# Altium footprint library user_components_lib.PcbLib: 52 footprints (part 4 of 4)
Each footprint in its own frame and in the unit in brackets; x right, y up, seen from the top. Pads: shape width x height; smd on the part's side, far side on the other; paste and mask are expansions set on the pad; w line width, h text height; cw(c..) or ccw(c..) is an arc to the next point about the centre after c.
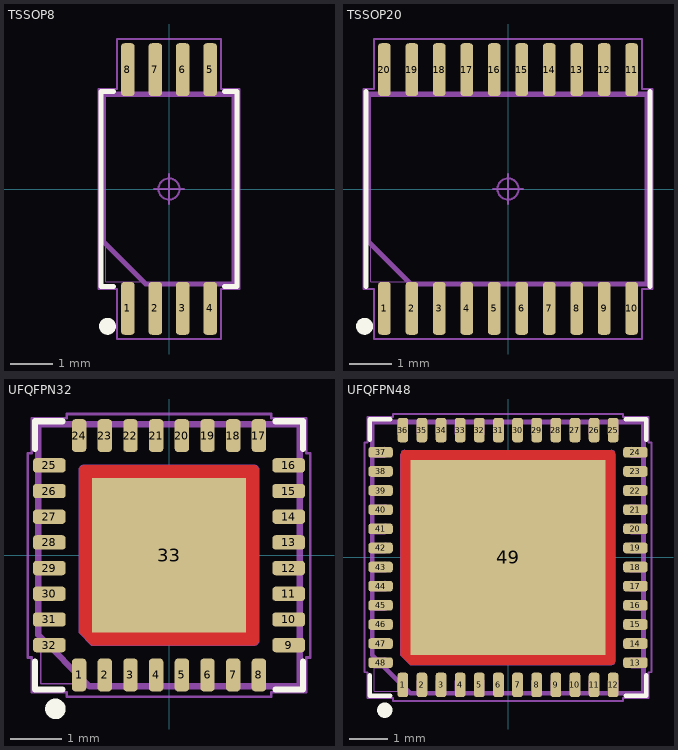
[diagram p3: the footprints below, top view; thin cyan lines are the x and y axes]

## TSSOP8 [mm] "Small Outline Pkg (SOP), 0.65 mm pitch; 8 pin, 3.00 mm L X 4.40 mm W X 1.20 mm H body"
height 1.2
pads (8):
  rrect50% 0.32x1.25 smd: 1(-0.975,-2.825) 2(-0.325,-2.825) 3(0.325,-2.825) 4(0.975,-2.825) 5(0.975,2.825) 6(0.325,2.825) 7(-0.325,2.825) 8(-0.975,2.825)
Top Overlay:
  circle w0.2: c-1.455,-3.25 r0.1
  lines w0.12: -1.315,-2.31 -1.61,-2.31 -1.61,2.31 -1.315,2.31 ; 1.315,-2.31 1.61,-2.31 1.61,2.31 1.315,2.31
Mechanical 9:
  lines w0.12: -1.55,-1.25 -1.55,2.25 1.55,2.25 1.55,-2.25 -0.55,-2.25 -1.55,-1.25
  text ".Designator" at -4.511,-0.453 h2
Mechanical 11:
  text ".Designator" at -2.252,-0.226 h1
Mechanical 15:
  lines w0.05: -1.67,-2.37 -1.235,-2.37 -1.235,-3.55 1.235,-3.55 1.235,-2.37 1.67,-2.37 1.67,2.37 1.235,2.37 1.235,3.55 -1.235,3.55 -1.235,2.37 -1.67,2.37 -1.67,-2.37
Mechanical 17:
  circle w0.05: c0,0 r0.25
  lines w0.05: -0.35,0 0.35,0 ; 0,-0.35 0,0.35
Mechanical 21:
  lines w0.025: -1.5,-2.2 1.5,-2.2 1.5,2.2 -1.5,2.2 -1.5,-2.2 ; -1.098,-3.2 -1.098,-2.6 -0.853,-2.6 -0.853,-3.2 -1.098,-3.2 ; -1.098,2.6 -1.098,3.2 -0.853,3.2 -0.853,2.6 -1.098,2.6 ; -0.447,-3.2 -0.447,-2.6 -0.202,-2.6 -0.202,-3.2 -0.447,-3.2 ; -0.447,2.6 -0.447,3.2 -0.202,3.2 -0.202,2.6 -0.447,2.6 ; 0.202,-3.2 0.202,-2.6 0.447,-2.6 0.447,-3.2 0.202,-3.2 ; 0.202,2.6 0.202,3.2 0.447,3.2 0.447,2.6 0.202,2.6 ; 0.853,-3.2 0.853,-2.6 1.098,-2.6 1.098,-3.2 0.853,-3.2 ; 0.853,2.6 0.853,3.2 1.098,3.2 1.098,2.6 0.853,2.6
3D body "TSSOP8.STEP": height 1.2, standoff 0, extent -1.5,-3.2 1.5,3.2

## TSSOP20 [mm] "Small Outline Pkg (SOP), 0.65 mm pitch; 20 pin, 6.50 mm L X 4.40 mm W X 1.20 mm H body"
height 1.2
pads (20):
  rrect53% 0.3x1.25 smd: 1(-2.925,-2.825) 2(-2.275,-2.825) 3(-1.625,-2.825) 4(-0.975,-2.825) 5(-0.325,-2.825) 6(0.325,-2.825) 7(0.975,-2.825) 8(1.625,-2.825) 9(2.275,-2.825) 10(2.925,-2.825) 11(2.925,2.825) 12(2.275,2.825) 13(1.625,2.825) 14(0.975,2.825) 15(0.325,2.825) 16(-0.325,2.825) 17(-0.975,2.825) 18(-1.625,2.825) 19(-2.275,2.825) 20(-2.925,2.825)
Top Overlay:
  circle w0.2: c-3.395,-3.25 r0.1
  lines w0.12: -3.36,-2.31 -3.36,2.31 ; 3.36,-2.31 3.36,2.31
Mechanical 9:
  lines w0.12: -3.3,-1.25 -2.3,-2.25 3.3,-2.25 3.3,2.25 -3.3,2.25 -3.3,-1.25
  text ".Designator" at -4.511,-0.453 h2
Mechanical 11:
  text ".Designator" at -2.252,-0.226 h1
Mechanical 15:
  lines w0.05: -3.42,-2.37 -3.42,2.37 -3.175,2.37 -3.175,3.55 3.175,3.55 3.175,2.37 3.42,2.37 3.42,-2.37 3.175,-2.37 3.175,-3.55 -3.175,-3.55 -3.175,-2.37 -3.42,-2.37
Mechanical 17:
  circle w0.05: c0,0 r0.25
  lines w0.05: -0.35,0 0.35,0 ; 0,-0.35 0,0.35
Mechanical 21:
  lines w0.025: -3.25,-2.2 -3.25,2.2 3.25,2.2 3.25,-2.2 -3.25,-2.2 ; -3.045,-3.2 -2.805,-3.2 -2.805,-2.6 -3.045,-2.6 -3.045,-3.2 ; -3.045,2.6 -2.805,2.6 -2.805,3.2 -3.045,3.2 -3.045,2.6 ; -2.395,-3.2 -2.155,-3.2 -2.155,-2.6 -2.395,-2.6 -2.395,-3.2 ; -2.395,2.6 -2.155,2.6 -2.155,3.2 -2.395,3.2 -2.395,2.6 ; -1.745,-3.2 -1.505,-3.2 -1.505,-2.6 -1.745,-2.6 -1.745,-3.2 ; -1.745,2.6 -1.505,2.6 -1.505,3.2 -1.745,3.2 -1.745,2.6 ; -1.095,-3.2 -0.855,-3.2 -0.855,-2.6 -1.095,-2.6 -1.095,-3.2 ; -1.095,2.6 -0.855,2.6 -0.855,3.2 -1.095,3.2 -1.095,2.6 ; -0.445,-3.2 -0.205,-3.2 -0.205,-2.6 -0.445,-2.6 -0.445,-3.2 ; -0.445,2.6 -0.205,2.6 -0.205,3.2 -0.445,3.2 -0.445,2.6 ; 0.205,-3.2 0.445,-3.2 0.445,-2.6 0.205,-2.6 0.205,-3.2 ; 0.205,2.6 0.445,2.6 0.445,3.2 0.205,3.2 0.205,2.6 ; 0.855,-3.2 1.095,-3.2 1.095,-2.6 0.855,-2.6 0.855,-3.2 ; 0.855,2.6 1.095,2.6 1.095,3.2 0.855,3.2 0.855,2.6 ; 1.505,-3.2 1.745,-3.2 1.745,-2.6 1.505,-2.6 1.505,-3.2 ; 1.505,2.6 1.745,2.6 1.745,3.2 1.505,3.2 1.505,2.6 ; 2.155,-3.2 2.395,-3.2 2.395,-2.6 2.155,-2.6 2.155,-3.2 ; 2.155,2.6 2.395,2.6 2.395,3.2 2.155,3.2 2.155,2.6 ; 2.805,-3.2 3.045,-3.2 3.045,-2.6 2.805,-2.6 2.805,-3.2 ; 2.805,2.6 3.045,2.6 3.045,3.2 2.805,3.2 2.805,2.6
3D body "TSSOP20.STEP": height 1.2, standoff 0, extent -3.25,-3.2 3.25,3.2

## UFQFPN32 [mm] "Quad Flat No-Lead (QFN) with tab, 0.50 mm pitch; 33 pin, square, 8 pin X 8 pin, 5.00 mm L X 5.00 mm W X 0.60 mm H body"
height 0.6
pads (33):
  rrect50% 0.28x0.64 smd: 1(-1.75,-2.33) 2(-1.25,-2.33) 3(-0.75,-2.33) 4(-0.25,-2.33) 5(0.25,-2.33) 6(0.75,-2.33) 7(1.25,-2.33) 8(1.75,-2.33) 17(1.75,2.33) 18(1.25,2.33) 19(0.75,2.33) 20(0.25,2.33) 21(-0.25,2.33) 22(-0.75,2.33) 23(-1.25,2.33) 24(-1.75,2.33)
  rrect50% 0.64x0.28 smd: 9(2.33,-1.75) 10(2.33,-1.25) 11(2.33,-0.75) 12(2.33,-0.25) 13(2.33,0.25) 14(2.33,0.75) 15(2.33,1.25) 16(2.33,1.75) 25(-2.33,1.75) 26(-2.33,1.25) 27(-2.33,0.75) 28(-2.33,0.25) 29(-2.33,-0.25) 30(-2.33,-0.75) 31(-2.33,-1.25) 32(-2.33,-1.75)
  rect 3x3 smd paste-3 mask-3: 33(0,0)
Top Layer:
  region: 1.75,0 1.75,-1.65 1.749,-1.666 1.745,-1.681 1.739,-1.695 1.731,-1.709 1.721,-1.721 1.709,-1.731 1.695,-1.739 1.681,-1.745 1.666,-1.749 -1.5,-1.75 -1.75,-1.5 -1.75,1.65 -1.749,1.666 -1.745,1.681 -1.739,1.695 -1.731,1.709 -1.721,1.721 -1.709,1.731 -1.695,1.739 -1.681,1.745 -1.666,1.749 1.65,1.75 1.666,1.749 1.681,1.745 1.695,1.739 1.709,1.731 1.721,1.721 1.731,1.709 1.739,1.695 1.745,1.681 1.749,1.666 1.75,1.65
Top Overlay:
  circle w0.2: c-2.21,-2.99 r0.1
  lines w0.12: -2.61,-2.07 -2.61,-2.61 -2.07,-2.61 ; -2.61,2.07 -2.61,2.61 -2.07,2.61 ; 2.07,-2.61 2.61,-2.61 2.61,-2.07 ; 2.07,2.61 2.61,2.61 2.61,2.07
Top Paste:
  region: -0.197,0.197 -1.553,0.197 -1.553,1.553 -0.197,1.553
  region: -0.198,-1.55 -1.55,-1.55 -1.55,-0.198 -0.198,-0.198
  region: 1.553,0.197 0.197,0.197 0.197,1.553 1.553,1.553
  region: 1.553,-1.553 0.197,-1.553 0.197,-0.197 1.553,-0.197
Top Solder:
  region: 1.75,0 1.75,-1.65 1.749,-1.666 1.745,-1.681 1.739,-1.695 1.731,-1.709 1.721,-1.721 1.709,-1.731 1.695,-1.739 1.681,-1.745 1.666,-1.749 -1.5,-1.75 -1.75,-1.5 -1.75,1.65 -1.749,1.666 -1.745,1.681 -1.739,1.695 -1.731,1.709 -1.721,1.721 -1.709,1.731 -1.695,1.739 -1.681,1.745 -1.666,1.749 1.65,1.75 1.666,1.749 1.681,1.745 1.695,1.739 1.709,1.731 1.721,1.721 1.731,1.709 1.739,1.695 1.745,1.681 1.749,1.666 1.75,1.65
Mechanical 9:
  lines w0.12: -2.55,-1.55 -2.55,2.55 2.55,2.55 2.55,-2.55 -1.55,-2.55 -2.55,-1.55
  text ".Designator" at -4.511,-0.453 h2
Mechanical 11:
  text ".Designator" at -2.252,-0.226 h1
Mechanical 15:
  lines w0.05: -2.75,-1.99 -2.67,-1.99 -2.67,-2.67 -1.99,-2.67 -1.99,-2.75 1.99,-2.75 1.99,-2.67 2.67,-2.67 2.67,-1.99 2.75,-1.99 2.75,1.99 2.67,1.99 2.67,2.67 1.99,2.67 1.99,2.75 -1.99,2.75 -1.99,2.67 -2.67,2.67 -2.67,1.99 -2.75,1.99 -2.75,-1.99
Mechanical 17:
  circle w0.05: c0,0 r0.25
  lines w0.05: -0.35,0 0.35,0 ; 0,-0.35 0,0.35
Mechanical 21:
  lines w0.025: -2.5,-2.5 2.5,-2.5 2.5,2.5 -2.5,2.5 -2.5,-2.5 ; -2.5,-1.865 -2.5,-1.635 -2.215,-1.635 cw(c-2.215,-1.75) -2.215,-1.865 -2.5,-1.865 ; -2.5,-1.365 -2.5,-1.135 -2.215,-1.135 cw(c-2.215,-1.25) -2.215,-1.365 -2.5,-1.365 ; -2.5,-0.865 -2.5,-0.635 -2.215,-0.635 cw(c-2.215,-0.75) -2.215,-0.865 -2.5,-0.865 ; -2.5,-0.365 -2.5,-0.135 -2.215,-0.135 cw(c-2.215,-0.25) -2.215,-0.365 -2.5,-0.365 ; -2.5,0.135 -2.5,0.365 -2.215,0.365 cw(c-2.215,0.25) -2.215,0.135 -2.5,0.135 ; -2.5,0.635 -2.5,0.865 -2.215,0.865 cw(c-2.215,0.75) -2.215,0.635 -2.5,0.635 ; -2.5,1.135 -2.5,1.365 -2.215,1.365 cw(c-2.215,1.25) -2.215,1.135 -2.5,1.135 ; -2.5,1.635 -2.5,1.865 -2.215,1.865 cw(c-2.215,1.75) -2.215,1.635 -2.5,1.635 ; -1.865,-2.5 -1.635,-2.5 -1.635,-2.215 ccw(c-1.75,-2.215) -1.865,-2.215 -1.865,-2.5 ; -1.865,2.215 ccw(c-1.75,2.215) -1.635,2.215 -1.635,2.5 -1.865,2.5 -1.865,2.215 ; -1.75,-1.5 -1.5,-1.75 1.65,-1.75 ccw(c1.65,-1.65) 1.75,-1.65 1.75,1.65 ccw(c1.65,1.65) 1.65,1.75 -1.65,1.75 ccw(c-1.65,1.65) -1.75,1.65 -1.75,-1.5 ; -1.365,-2.5 -1.135,-2.5 -1.135,-2.215 ccw(c-1.25,-2.215) -1.365,-2.215 -1.365,-2.5 ; -1.365,2.215 ccw(c-1.25,2.215) -1.135,2.215 -1.135,2.5 -1.365,2.5 -1.365,2.215 ; -0.865,-2.5 -0.635,-2.5 -0.635,-2.215 ccw(c-0.75,-2.215) -0.865,-2.215 -0.865,-2.5 ; -0.865,2.215 ccw(c-0.75,2.215) -0.635,2.215 -0.635,2.5 -0.865,2.5 -0.865,2.215 ; -0.365,-2.5 -0.135,-2.5 -0.135,-2.215 ccw(c-0.25,-2.215) -0.365,-2.215 -0.365,-2.5 ; -0.365,2.215 ccw(c-0.25,2.215) -0.135,2.215 -0.135,2.5 -0.365,2.5 -0.365,2.215 ; 0.135,-2.5 0.365,-2.5 0.365,-2.215 ccw(c0.25,-2.215) 0.135,-2.215 0.135,-2.5 ; 0.135,2.215 ccw(c0.25,2.215) 0.365,2.215 0.365,2.5 0.135,2.5 0.135,2.215 ; 0.635,-2.5 0.865,-2.5 0.865,-2.215 ccw(c0.75,-2.215) 0.635,-2.215 0.635,-2.5 ; 0.635,2.215 ccw(c0.75,2.215) 0.865,2.215 0.865,2.5 0.635,2.5 0.635,2.215 ; 1.135,-2.5 1.365,-2.5 1.365,-2.215 ccw(c1.25,-2.215) 1.135,-2.215 1.135,-2.5 ; 1.135,2.215 ccw(c1.25,2.215) 1.365,2.215 1.365,2.5 1.135,2.5 1.135,2.215 ; 1.635,-2.5 1.865,-2.5 1.865,-2.215 ccw(c1.75,-2.215) 1.635,-2.215 1.635,-2.5 ; 1.635,2.215 ccw(c1.75,2.215) 1.865,2.215 1.865,2.5 1.635,2.5 1.635,2.215 ; 2.215,-1.865 cw(c2.215,-1.75) 2.215,-1.635 2.5,-1.635 2.5,-1.865 2.215,-1.865 ; 2.215,-1.365 cw(c2.215,-1.25) 2.215,-1.135 2.5,-1.135 2.5,-1.365 2.215,-1.365 ; 2.215,-0.865 cw(c2.215,-0.75) 2.215,-0.635 2.5,-0.635 2.5,-0.865 2.215,-0.865 ; 2.215,-0.365 cw(c2.215,-0.25) 2.215,-0.135 2.5,-0.135 2.5,-0.365 2.215,-0.365 ; 2.215,0.135 cw(c2.215,0.25) 2.215,0.365 2.5,0.365 2.5,0.135 2.215,0.135 ; 2.215,0.635 cw(c2.215,0.75) 2.215,0.865 2.5,0.865 2.5,0.635 2.215,0.635 ; 2.215,1.135 cw(c2.215,1.25) 2.215,1.365 2.5,1.365 2.5,1.135 2.215,1.135 ; 2.215,1.635 cw(c2.215,1.75) 2.215,1.865 2.5,1.865 2.5,1.635 2.215,1.635
3D body "UFQFPN32.STEP": height 0.6, standoff 0, extent -2.55,-2.55 2.55,2.55

## UFQFPN48 [mm] "Quad Flat No-Lead (QFN) with tab, 0.50 mm pitch; 49 pin, square, 12 pin X 12 pin, 7.00 mm L X 7.00 mm W X 0.60 mm H body"
height 0.6
pads (49):
  rrect53% 0.28x0.64 smd: 1(-2.75,-3.33) 2(-2.25,-3.33) 3(-1.75,-3.33) 4(-1.25,-3.33) 5(-0.75,-3.33) 6(-0.25,-3.33) 7(0.25,-3.33) 8(0.75,-3.33) 9(1.25,-3.33) 10(1.75,-3.33) 11(2.25,-3.33) 12(2.75,-3.33) 25(2.75,3.33) 26(2.25,3.33) 27(1.75,3.33) 28(1.25,3.33) 29(0.75,3.33) 30(0.25,3.33) 31(-0.25,3.33) 32(-0.75,3.33) 33(-1.25,3.33) 34(-1.75,3.33) 35(-2.25,3.33) 36(-2.75,3.33)
  rrect53% 0.64x0.28 smd: 13(3.33,-2.75) 14(3.33,-2.25) 15(3.33,-1.75) 16(3.33,-1.25) 17(3.33,-0.75) 18(3.33,-0.25) 19(3.33,0.25) 20(3.33,0.75) 21(3.33,1.25) 22(3.33,1.75) 23(3.33,2.25) 24(3.33,2.75) 37(-3.33,2.75) 38(-3.33,2.25) 39(-3.33,1.75) 40(-3.33,1.25) 41(-3.33,0.75) 42(-3.33,0.25) 43(-3.33,-0.25) 44(-3.33,-0.75) 45(-3.33,-1.25) 46(-3.33,-1.75) 47(-3.33,-2.25) 48(-3.33,-2.75)
  rect 5.1x5.1 smd paste-5.1 mask-5.1: 49(0,0)
Top Layer:
  region: 2.8,0 2.8,-2.7 2.799,-2.716 2.795,-2.731 2.789,-2.745 2.781,-2.759 2.771,-2.771 2.759,-2.781 2.745,-2.789 2.731,-2.795 2.716,-2.799 -2.55,-2.8 -2.8,-2.55 -2.8,2.7 -2.799,2.716 -2.795,2.731 -2.789,2.745 -2.781,2.759 -2.771,2.771 -2.759,2.781 -2.745,2.789 -2.731,2.795 -2.716,2.799 2.7,2.8 2.716,2.799 2.731,2.795 2.745,2.789 2.759,2.781 2.771,2.771 2.781,2.759 2.789,2.745 2.795,2.731 2.799,2.716 2.8,2.7
Top Overlay:
  circle w0.2: c-3.22,-3.99 r0.1
  lines w0.12: -3.61,-3.08 -3.61,-3.61 -3.08,-3.61 ; -3.61,3.08 -3.61,3.61 -3.08,3.61 ; 3.08,-3.61 3.61,-3.61 3.61,-3.08 ; 3.08,3.61 3.61,3.61 3.61,3.08
Top Paste:
  region: 2.59,-2.59 1.144,-2.59 1.144,-1.144 2.59,-1.144
  region: 2.59,-0.723 1.144,-0.723 1.144,0.723 2.59,0.723
  region: 2.59,1.144 1.144,1.144 1.144,2.59 2.59,2.59
  region: 0.723,-2.59 -0.723,-2.59 -0.723,-1.144 0.723,-1.144
  region: 0.723,-0.723 -0.723,-0.723 -0.723,0.723 0.723,0.723
  region: 0.723,1.144 -0.723,1.144 -0.723,2.59 0.723,2.59
  region: -1.144,-2.59 -2.59,-2.59 -2.59,-1.144 -1.144,-1.144
  region: -1.144,-0.723 -2.59,-0.723 -2.59,0.723 -1.144,0.723
  region: -1.144,1.144 -2.59,1.144 -2.59,2.59 -1.144,2.59
Top Solder:
  region: 2.8,0 2.8,-2.7 2.799,-2.716 2.795,-2.731 2.789,-2.745 2.781,-2.759 2.771,-2.771 2.759,-2.781 2.745,-2.789 2.731,-2.795 2.716,-2.799 -2.55,-2.8 -2.8,-2.55 -2.8,2.7 -2.799,2.716 -2.795,2.731 -2.789,2.745 -2.781,2.759 -2.771,2.771 -2.759,2.781 -2.745,2.789 -2.731,2.795 -2.716,2.799 2.7,2.8 2.716,2.799 2.731,2.795 2.745,2.789 2.759,2.781 2.771,2.771 2.781,2.759 2.789,2.745 2.795,2.731 2.799,2.716 2.8,2.7
Mechanical 9:
  lines w0.12: -3.55,-2.55 -2.55,-3.55 3.55,-3.55 3.55,3.55 -3.55,3.55 -3.55,-2.55
  text ".Designator" at -4.511,-0.453 h2
Mechanical 11:
  text ".Designator" at -2.252,-0.226 h1
Mechanical 15:
  lines w0.05: -3.75,-3 -3.75,3 -3.67,3 -3.67,3.67 -3,3.67 -3,3.75 3,3.75 3,3.67 3.67,3.67 3.67,3 3.75,3 3.75,-3 3.67,-3 3.67,-3.67 3,-3.67 3,-3.75 -3,-3.75 -3,-3.67 -3.67,-3.67 -3.67,-3 -3.75,-3
Mechanical 17:
  circle w0.05: c0,0 r0.25
  lines w0.05: -0.35,0 0.35,0 ; 0,-0.35 0,0.35
Mechanical 21:
  drawing of 204 lines, arcs and shapes, not listed
3D body "UFQFPN48.STEP": height 0.6, standoff 0, extent -3.55,-3.55 3.55,3.55